# EAGLE library part 78M6618 (library Cool_Electricity)
78M6618 Energy metering IC
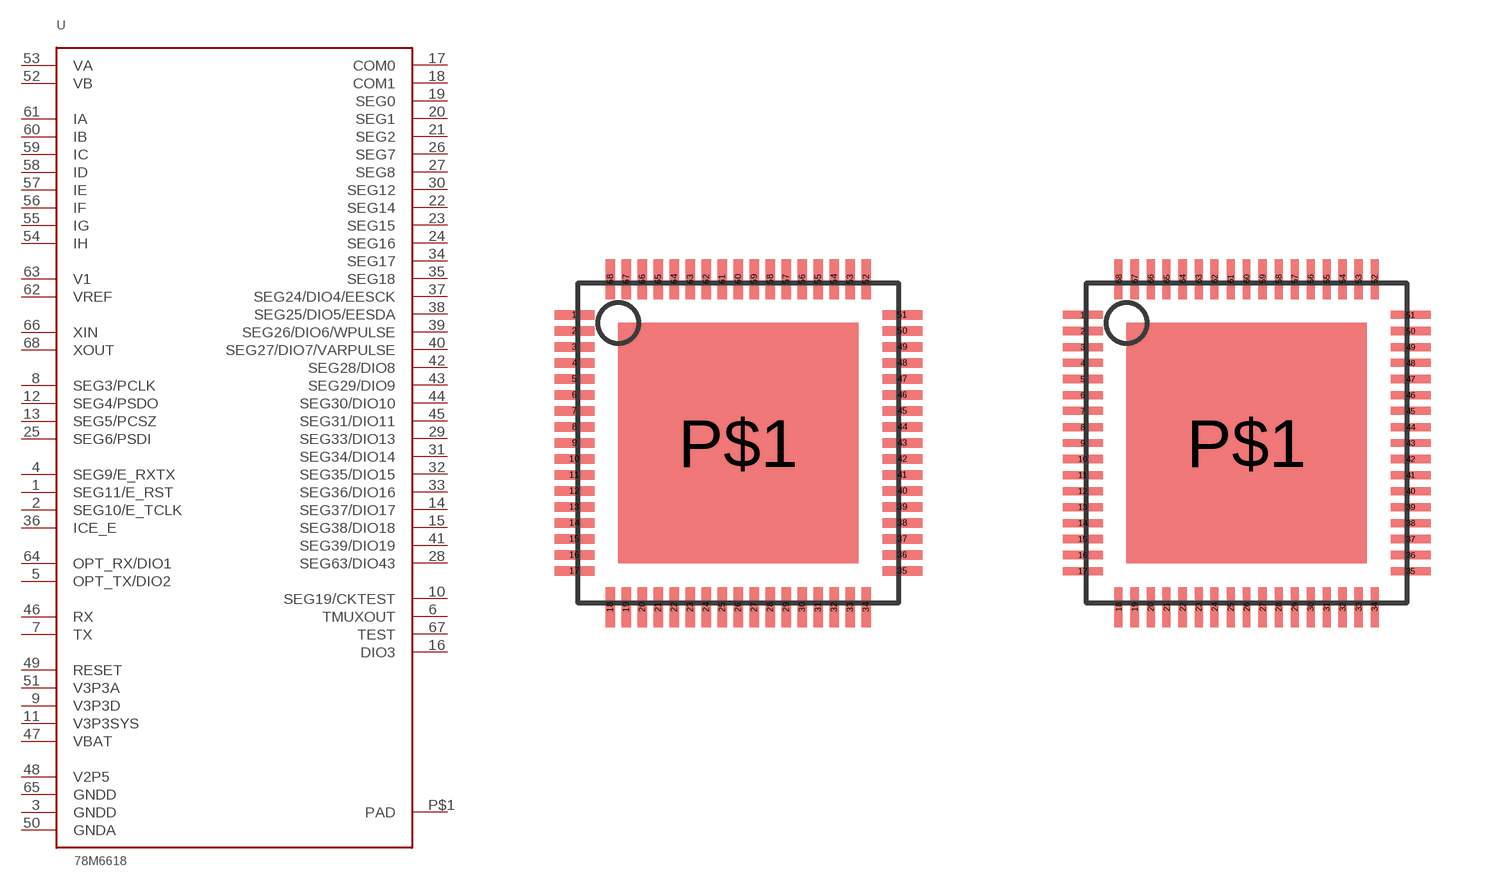
[diagram p0: symbol with the pads of 78M6618_QFN68; footprints 78M6618_QFN68, 78M661_QFN68_HANDSOLDER]

Designator prefix U

## 78M6618QFN68  [78M6618_QFN68]
1  SEG11/E_RST
2  SEG10/E_TCLK
3  GNDD
4  SEG9/E_RXTX
5  OPT_TX/DIO2
6  TMUXOUT
7  TX
8  SEG3/PCLK
9  V3P3D
10  SEG19/CKTEST
11  V3P3SYS
12  SEG4/PSDO
13  SEG5/PCSZ
14  SEG37/DIO17
15  SEG38/DIO18
16  DIO3
17  COM0
18  COM1
19  SEG0
20  SEG1
21  SEG2
22  SEG14
23  SEG15
24  SEG16
25  SEG6/PSDI
26  SEG7
27  SEG8
28  SEG63/DIO43
29  SEG33/DIO13
30  SEG12
31  SEG34/DIO14
32  SEG35/DIO15
33  SEG36/DIO16
34  SEG17
35  SEG18
36  ICE_E
37  SEG24/DIO4/EESCK
38  SEG25/DIO5/EESDA
39  SEG26/DIO6/WPULSE
40  SEG27/DIO7/VARPULSE
41  SEG39/DIO19
42  SEG28/DIO8
43  SEG29/DIO9
44  SEG30/DIO10
45  SEG31/DIO11
46  RX
47  VBAT
48  V2P5
49  RESET
50  GNDA
51  V3P3A
52  VB
53  VA
54  IH
55  IG
56  IF
57  IE
58  ID
59  IC
60  IB
61  IA
62  VREF
63  V1
64  OPT_RX/DIO1
65  GNDD
66  XIN
67  TEST
68  XOUT
P$1  PAD

## 78M6618HANDSOLDER  [78M661_QFN68_HANDSOLDER]
Pads as for 78M6618_QFN68

## Footprint 78M6618_QFN68 (pad centres in mm)
QFN68 for 78M6618
smd 1 x 0.23: 1 -4.1,3.2; 2 -4.1,2.8; 3 -4.1,2.4; 4 -4.1,2; 5 -4.1,1.6; 6 -4.1,1.2; 7 -4.1,0.8; 8 -4.1,0.4; 9 -4.1,0; 10 -4.1,-0.4; 11 -4.1,-0.8; 12 -4.1,-1.2; 13 -4.1,-1.6; 14 -4.1,-2; 15 -4.1,-2.4; 16 -4.1,-2.8; 17 -4.1,-3.2; 35 4.1,-3.2; 36 4.1,-2.8; 37 4.1,-2.4; 38 4.1,-2; 39 4.1,-1.6; 40 4.1,-1.2; 41 4.1,-0.8; 42 4.1,-0.4; 43 4.1,0; 44 4.1,0.4; 45 4.1,0.8; 46 4.1,1.2; 47 4.1,1.6; 48 4.1,2; 49 4.1,2.4; 50 4.1,2.8; 51 4.1,3.2
smd 0.23 x 1: 18 -3.2,-4.1; 19 -2.8,-4.1; 20 -2.4,-4.1; 21 -2,-4.1; 22 -1.6,-4.1; 23 -1.2,-4.1; 24 -0.8,-4.1; 25 -0.4,-4.1; 26 0,-4.1; 27 0.4,-4.1; 28 0.8,-4.1; 29 1.2,-4.1; 30 1.6,-4.1; 31 2,-4.1; 32 2.4,-4.1; 33 2.8,-4.1; 34 3.2,-4.1; 52 3.2,4.1; 53 2.8,4.1; 54 2.4,4.1; 55 2,4.1; 56 1.6,4.1; 57 1.2,4.1; 58 0.8,4.1; 59 0.4,4.1; 60 0,4.1; 61 -0.4,4.1; 62 -0.8,4.1; 63 -1.2,4.1; 64 -1.6,4.1; 65 -2,4.1; 66 -2.4,4.1; 67 -2.8,4.1; 68 -3.2,4.1
smd 6 x 6: P$1 0,0

## Footprint 78M661_QFN68_HANDSOLDER (pad centres in mm)
smd 1 x 0.2: 1 -4.1,3.2; 2 -4.1,2.8; 3 -4.1,2.4; 4 -4.1,2; 5 -4.1,1.6; 6 -4.1,1.2; 7 -4.1,0.8; 8 -4.1,0.4; 9 -4.1,0; 10 -4.1,-0.4; 11 -4.1,-0.8; 12 -4.1,-1.2; 13 -4.1,-1.6; 14 -4.1,-2; 15 -4.1,-2.4; 16 -4.1,-2.8; 17 -4.1,-3.2; 35 4.1,-3.2; 36 4.1,-2.8; 37 4.1,-2.4; 38 4.1,-2; 39 4.1,-1.6; 40 4.1,-1.2; 41 4.1,-0.8; 42 4.1,-0.4; 43 4.1,0; 44 4.1,0.4; 45 4.1,0.8; 46 4.1,1.2; 47 4.1,1.6; 48 4.1,2; 49 4.1,2.4; 50 4.1,2.8; 51 4.1,3.2
smd 0.2 x 1: 18 -3.2,-4.1; 19 -2.8,-4.1; 20 -2.4,-4.1; 21 -2,-4.1; 22 -1.6,-4.1; 23 -1.2,-4.1; 24 -0.8,-4.1; 25 -0.4,-4.1; 26 0,-4.1; 27 0.4,-4.1; 28 0.8,-4.1; 29 1.2,-4.1; 30 1.6,-4.1; 31 2,-4.1; 32 2.4,-4.1; 33 2.8,-4.1; 34 3.2,-4.1; 52 3.2,4.1; 53 2.8,4.1; 54 2.4,4.1; 55 2,4.1; 56 1.6,4.1; 57 1.2,4.1; 58 0.8,4.1; 59 0.4,4.1; 60 0,4.1; 61 -0.4,4.1; 62 -0.8,4.1; 63 -1.2,4.1; 64 -1.6,4.1; 65 -2,4.1; 66 -2.4,4.1; 67 -2.8,4.1; 68 -3.2,4.1
smd 6 x 6: P$1 0,0